# EAGLE library part PICAXE40X2 (library Mine)
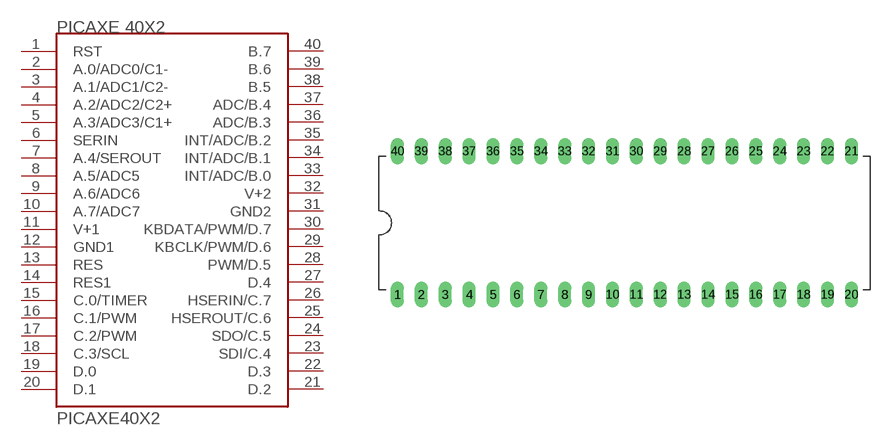
[diagram p6: symbol with the pads of DIL40; footprint DIL40]

Designator prefix PIC

## PICAXE40X2  [DIL40]
1  RST  in
2  A.0/ADC0/C1-
3  A.1/ADC1/C2-
4  A.2/ADC2/C2+
5  A.3/ADC3/C1+
6  SERIN  in
7  A.4/SEROUT
8  A.5/ADC5
9  A.6/ADC6
10  A.7/ADC7
11  V+1  pwr
12  GND1  pwr
13  RES
14  RES1
15  C.0/TIMER
16  C.1/PWM
17  C.2/PWM
18  C.3/SCL
19  D.0
20  D.1
21  D.2
22  D.3
23  SDI/C.4
24  SDO/C.5
25  HSEROUT/C.6
26  HSERIN/C.7
27  D.4
28  PWM/D.5
29  KBCLK/PWM/D.6
30  KBDATA/PWM/D.7
31  GND2  pwr
32  V+2  pwr
33  INT/ADC/B.0
34  INT/ADC/B.1
35  INT/ADC/B.2
36  ADC/B.3
37  ADC/B.4
38  B.5
39  B.6
40  B.7

## Footprint DIL40 (pad centres in mm)
drill 0.9 long: 1 -21.59,-8.89; 2 -19.05,-8.89; 3 -16.51,-8.89; 4 -13.97,-8.89; 5 -11.43,-8.89; 6 -8.89,-8.89; 7 -6.35,-8.89; 8 -3.81,-8.89; 9 -1.27,-8.89; 10 1.27,-8.89; 11 3.81,-8.89; 12 6.35,-8.89; 13 8.89,-8.89; 14 11.43,-8.89; 15 13.97,-8.89; 16 16.51,-8.89; 17 19.05,-8.89; 18 21.59,-8.89; 19 24.13,-8.89; 20 26.67,-8.89; 21 26.67,6.35; 22 24.13,6.35; 23 21.59,6.35; 24 19.05,6.35; 25 16.51,6.35; 26 13.97,6.35; 27 11.43,6.35; 28 8.89,6.35; 29 6.35,6.35; 30 3.81,6.35; 31 1.27,6.35; 32 -1.27,6.35; 33 -3.81,6.35; 34 -6.35,6.35; 35 -8.89,6.35; 36 -11.43,6.35; 37 -13.97,6.35; 38 -16.51,6.35; 39 -19.05,6.35; 40 -21.59,6.35